# EAGLE library part SS-51000-003 (library lichtenstein_onion)
SS-51000-003 – Unshielded, CAT6a, Punch Down Block, 8P 8C Information <https://belfuse.com/product/part-details?partn=SS-51000-003> Mechanical Drawing <https://belfuse.com/resources/drawings/stewartconnector/dr-stw-ss-51000-003.pdf> Compatible with SS-51000-004 (same connector but with color coded terminals for CAT6 cable)
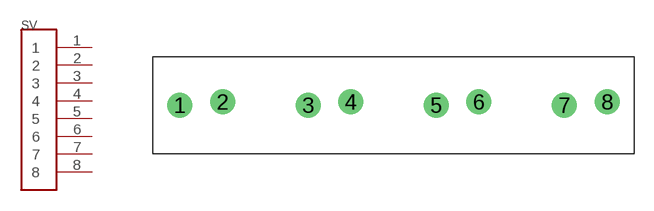
[diagram p15: symbol with the pads of SS-51000-003; footprint SS-51000-003]

Designator prefix SV

## SS-51000-003 (MOUSER: 530-SS-51000-003)  [SS-51000-003]
1  1  pas
2  2  pas
3  3  pas
4  4  pas
5  5  pas
6  6  pas
7  7  pas
8  8  pas

## Footprint SS-51000-003 (pad centres in mm)
drill 1.067 pad 1.93: 1 0,0; 2 3.302,0.254; 3 9.906,0; 4 13.208,0.254; 5 19.812,0; 6 23.114,0.254; 7 29.718,0; 8 33.02,0.254